# Altium footprint library Hardware.PcbLib: 20 footprints (part 2 of 2)
Each footprint in its own frame and in the unit in brackets; x right, y up, seen from the top. Pads: shape width x height; smd on the part's side, far side on the other; paste and mask are expansions set on the pad; w line width, h text height; cw(c..) or ccw(c..) is an arc to the next point about the centre after c.
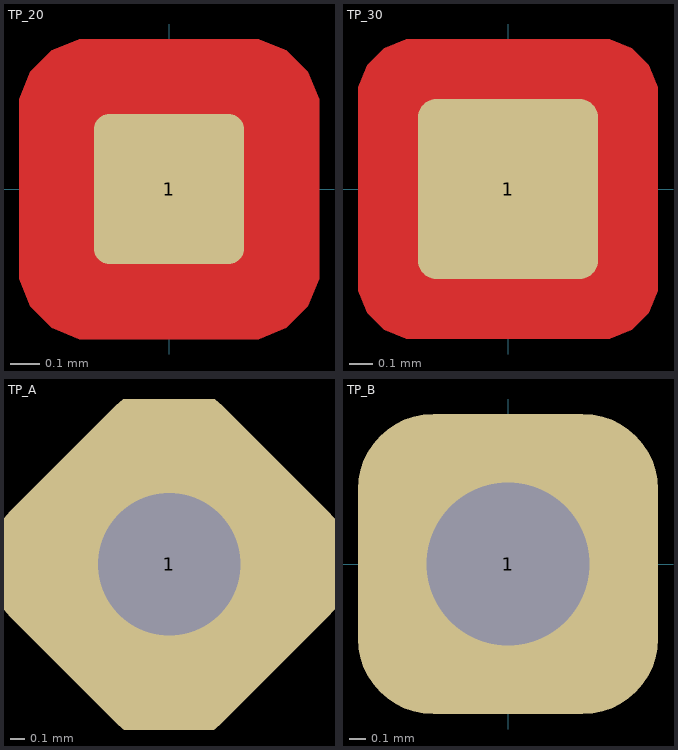
[diagram p1: the footprints below, top view; thin cyan lines are the x and y axes]

## TP_20 [mil]
pads (1):
  rrect20% 20x20 smd paste-30 mask+2: 1(0,0)
Top Layer:
  pour cut-out: -10,20 -11.99,20 -15.66,18.48 -18.48,15.66 -20,11.99 -20,10 -20,-10 -20,-11.99 -18.48,-15.66 -15.66,-18.48 -11.99,-20 -10,-20 10,-20 11.99,-20 15.66,-18.48 18.48,-15.66 20,-11.99 20,-10 20,10 20,11.99 18.48,15.66 15.66,18.48 11.99,20 10,20

## TP_30 [mil]
pads (1):
  rrect20% 30x30 smd paste-40 mask+2: 1(0,0)
Top Layer:
  pour cut-out: -15,25 -16.99,25 -20.66,23.48 -23.48,20.66 -25,16.99 -25,15 -25,-15 -25,-16.99 -23.48,-20.66 -20.66,-23.48 -16.99,-25 -15,-25 15,-25 16.99,-25 20.66,-23.48 23.48,-20.66 25,-16.99 25,-15 25,15 25,16.99 23.48,20.66 20.66,23.48 16.99,25 15,25

## TP_A [mil]
pads (1):
  rrect50% 80x80 hole 38 rot 45: 1(0,0)

## TP_B [mil]
pads (1):
  rrect50% 70x70 hole 38: 1(0,0)